# Altium footprint library OBDII-components.PcbLib: 27 footprints (part 1 of 2)
Each footprint in its own frame and in the unit in brackets; x right, y up, seen from the top. Pads: shape width x height; smd on the part's side, far side on the other; paste and mask are expansions set on the pad; w line width, h text height; cw(c..) or ccw(c..) is an arc to the next point about the centre after c.
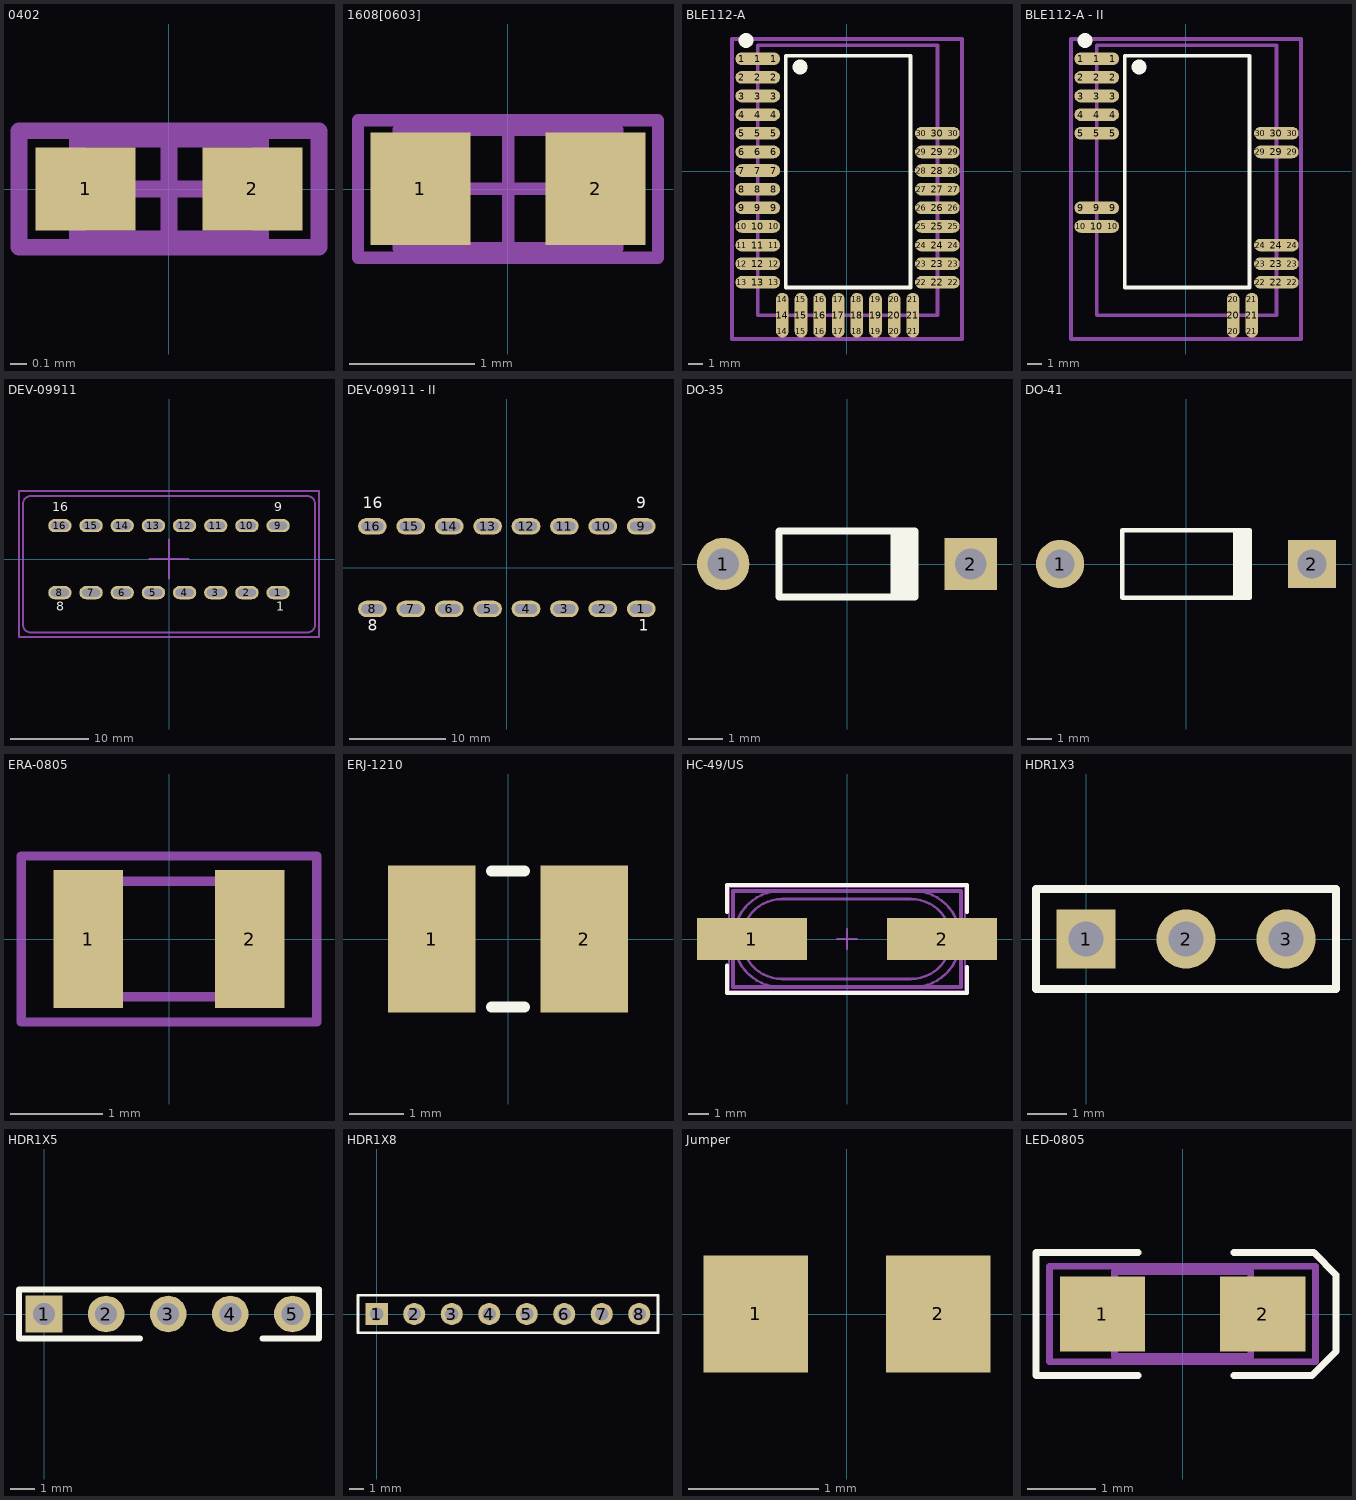
[diagram p0: the footprints below, top view; thin cyan lines are the x and y axes]

## 0402 [mm] "Chip Capacitor, Body 1.0x0.5mm, IPC High Density"
height 1.3
pads (2):
  rect 0.6x0.5 smd: 1(-0.5,0) 2(0.5,0)
Mechanical 13:
  lines w0.1: -0.55,-0.3 -0.55,0.3 0.55,0.3 0.55,-0.3 -0.55,-0.3
Mechanical 15:
  lines w0.1: -0.3,0 0.3,0 ; 0,-0.3 0,0.3 ; -0.9,-0.35 -0.9,0.35 0.9,0.35 0.9,-0.35 -0.9,-0.35
3D body: height 1.3, standoff 0, extent -0.55,-0.3 0.55,0.3

## 1608[0603] [mm] "Chip Capacitor, Body 1.6x0.8mm, IPC High Density"
height 1.3
pads (2):
  rect 0.8x0.9 smd: 1(-0.7,0) 2(0.7,0)
Mechanical 13:
  lines w0.1: -0.875,-0.475 -0.875,0.475 0.875,0.475 0.875,-0.475 -0.875,-0.475
Mechanical 15:
  lines w0.1: -0.475,0 0.475,0 ; 0,-0.475 0,0.475 ; -1.2,-0.55 -1.2,0.55 1.2,0.55 1.2,-0.55 -1.2,-0.55
3D body: height 1.3, standoff 0, extent -0.875,-0.475 0.875,0.475

## BLE112-A [mm] "BLE112 Bluetooth Smart Module"
pads (90):
  round 0.85 smd: 1(-7.05,7.55) 1(-4.9,7.55) 2(-7.05,6.3) 2(-4.9,6.3) 3(-7.05,5.05) 3(-4.9,5.05) 4(-7.05,3.8) 4(-4.9,3.8) 5(-7.05,2.55) 5(-4.9,2.55) 6(-7.05,1.3) 6(-4.9,1.3) 7(-7.05,0.05) 7(-4.9,0.05) 8(-7.05,-1.2) 8(-4.9,-1.2) 9(-7.05,-2.45) 9(-4.9,-2.45) 10(-7.05,-3.7) 10(-4.9,-3.7) 11(-7.05,-4.95) 11(-4.9,-4.95) 12(-7.05,-6.2) 12(-4.9,-6.2) 13(-7.05,-7.45) 13(-4.9,-7.45) 14(-4.325,-10.725) 14(-4.325,-8.575) 15(-3.075,-10.725) 15(-3.075,-8.575) 16(-1.825,-10.725) 16(-1.825,-8.575) 17(-0.575,-10.725) 17(-0.575,-8.575) 18(0.675,-10.725) 18(0.675,-8.575) 19(1.925,-10.725) 19(1.925,-8.575) 20(3.175,-10.725) 20(3.175,-8.575) 21(4.425,-10.725) 21(4.425,-8.575) 22(5,-7.45) 22(7.15,-7.45) 23(5,-6.2) 23(7.15,-6.2) 24(5,-4.95) 24(7.15,-4.95) 25(5,-3.7) 25(7.15,-3.7) 26(5,-2.45) 26(7.15,-2.45) 27(5,-1.2) 27(7.15,-1.2) 28(5,0.05) 28(7.15,0.05) 29(5,1.3) 29(7.15,1.3) 30(5,2.55) 30(7.15,2.55)
  rect 2.15x0.85 smd: 1(-5.975,7.55) 2(-5.975,6.3) 3(-5.975,5.05) 4(-5.975,3.8) 5(-5.975,2.55) 6(-5.975,1.3) 7(-5.975,0.05) 8(-5.975,-1.2) 9(-5.975,-2.45) 10(-5.975,-3.7) 11(-5.975,-4.95) 12(-5.975,-6.2) 13(-5.975,-7.45) 22(6.075,-7.45) 23(6.075,-6.2) 24(6.075,-4.95) 25(6.075,-3.7) 26(6.075,-2.45) 27(6.075,-1.2) 28(6.075,0.05) 29(6.075,1.3) 30(6.075,2.55)
  rect 0.85x2.15 smd: 14(-4.325,-9.65) 15(-3.075,-9.65) 16(-1.825,-9.65) 17(-0.575,-9.65) 18(0.675,-9.65) 19(1.925,-9.65) 20(3.175,-9.65) 21(4.425,-9.65)
Top Overlay:
  circle w1: c-3.13,7 r0.005
  circle w1: c-6.755,8.775 r0.005
  lines w0.254: -4.1,-7.8 -4.1,7.75 4.25,7.75 4.275,7.725 4.275,-7.8 -4.1,-7.8
Mechanical 1:
  text ".Designator" at 0.113,-2.438 h0.64
Mechanical 13:
  lines w0.254: -5.975,-9.65 4.425,-9.65 6.075,-9.65 6.075,2.55 6.075,8.45 -5.975,8.45 -5.975,-7.45 -5.975,-9.65
Mechanical 15:
  lines w0.254: -7.7,-11.25 7.725,-11.25 7.725,8.875 -7.7,8.875 -7.7,-11.225
3D body: height 2.3, standoff 0.1, extent -5.975,-9.65 6.075,8.45

## BLE112-A - II [mm] "BLE112 Bluetooth Smart Module"
height 2.3
pads (42):
  round 0.85 smd: 1(-7.05,7.55) 1(-4.9,7.55) 2(-7.05,6.3) 2(-4.9,6.3) 3(-7.05,5.05) 3(-4.9,5.05) 4(-7.05,3.8) 4(-4.9,3.8) 5(-7.05,2.55) 5(-4.9,2.55) 9(-7.05,-2.45) 9(-4.9,-2.45) 10(-7.05,-3.7) 10(-4.9,-3.7) 20(3.175,-10.725) 20(3.175,-8.575) 21(4.425,-10.725) 21(4.425,-8.575) 22(5,-7.45) 22(7.15,-7.45) 23(5,-6.2) 23(7.15,-6.2) 24(5,-4.95) 24(7.15,-4.95) 29(5,1.3) 29(7.15,1.3) 30(5,2.55) 30(7.15,2.55)
  rect 2.15x0.85 smd: 1(-5.975,7.55) 2(-5.975,6.3) 3(-5.975,5.05) 4(-5.975,3.8) 5(-5.975,2.55) 9(-5.975,-2.45) 10(-5.975,-3.7) 22(6.075,-7.45) 23(6.075,-6.2) 24(6.075,-4.95) 29(6.075,1.3) 30(6.075,2.55)
  rect 0.85x2.15 smd: 20(3.175,-9.65) 21(4.425,-9.65)
Top Overlay:
  circle w1: c-6.755,8.775 r0.005
  circle w1: c-3.13,7 r0.005
  lines w0.254: -4.1,-7.8 4.275,-7.8 4.275,7.725 4.25,7.75 -4.1,7.75 -4.1,-7.8
Mechanical 1:
  text ".Designator" at 0.113,-2.438 h0.64
Mechanical 13:
  lines w0.254: -5.975,-9.65 -5.975,-7.45 -5.975,8.45 6.075,8.45 6.075,2.55 6.075,-9.65 4.425,-9.65 -5.975,-9.65
Mechanical 15:
  lines w0.254: -7.7,-11.25 7.725,-11.25 7.725,8.875 -7.7,8.875 -7.7,-11.225
3D body: height 2.3, standoff 0.1, extent -5.975,-9.65 6.075,8.45

## DEV-09911 [mm] "OBD-II Connector"
height 20
pads (16):
  oval 3x1.7 hole 1 slot 2.3 at 0 deg: 1(14,-4.3) 2(10,-4.3) 3(6,-4.3) 4(2,-4.3) 5(-2,-4.3) 6(-6,-4.3) 7(-10,-4.3) 8(-14,-4.3) 9(14,4.3) 10(10,4.3) 11(6,4.3) 12(2,4.3) 13(-2,4.3) 14(-6,4.3) 15(-10,4.3) 16(-14,4.3)
Top Overlay:
  text "1" at 13.75,-7 h2
  text "8" at -14.5,-7 h2
  text "16" at -15,5.75 h2
  text "9" at 13.5,5.75 h2
Mechanical 1:
  text ".Designator" at -2.25,-0.75 h3
Mechanical 13:
  lines w0.127: -14.85,-4.7 -14.85,-3.9 -13.15,-3.9 -13.15,-4.7 -14.85,-4.7 ; -14.85,3.9 -14.85,4.7 -13.15,4.7 -13.15,3.9 -14.85,3.9 ; -10.85,-4.7 -10.85,-3.9 -9.15,-3.9 -9.15,-4.7 -10.85,-4.7 ; -10.85,3.9 -10.85,4.7 -9.15,4.7 -9.15,3.9 -10.85,3.9 ; -6.85,-4.7 -6.85,-3.9 -5.15,-3.9 -5.15,-4.7 -6.85,-4.7 ; -6.85,3.9 -6.85,4.7 -5.15,4.7 -5.15,3.9 -6.85,3.9 ; -2.85,-4.7 -2.85,-3.9 -1.15,-3.9 -1.15,-4.7 -2.85,-4.7 ; -2.85,3.9 -2.85,4.7 -1.15,4.7 -1.15,3.9 -2.85,3.9 ; 1.15,-4.7 1.15,-3.9 2.85,-3.9 2.85,-4.7 1.15,-4.7 ; 1.15,3.9 1.15,4.7 2.85,4.7 2.85,3.9 1.15,3.9 ; 5.15,-4.7 5.15,-3.9 6.85,-3.9 6.85,-4.7 5.15,-4.7 ; 5.15,3.9 5.15,4.7 6.85,4.7 6.85,3.9 5.15,3.9 ; 9.15,-4.7 9.15,-3.9 10.85,-3.9 10.85,-4.7 9.15,-4.7 ; 9.15,3.9 9.15,4.7 10.85,4.7 10.85,3.9 9.15,3.9 ; 13.15,-4.7 14.85,-4.7 14.85,-3.9 13.15,-3.9 13.15,-4.7 ; 13.15,3.9 13.15,4.7 14.85,4.7 14.85,3.9 13.15,3.9
  lines w0.254: -18.75,-8.415 ccw(c-17.75,-8.415) -17.75,-9.415 17.75,-9.415 ccw(c17.75,-8.415) 18.75,-8.415 18.75,7.085 ccw(c17.75,7.085) 17.75,8.085 -17.75,8.085 ccw(c-17.75,7.085) -18.75,7.085 -18.75,-8.415
Mechanical 15:
  lines w0.254: -2.5,0 2.5,0 ; 0,-2.5 0,2.5 ; -19.25,-10 -19.25,8.75 19.25,8.75 19.25,-10 -19.25,-10
3D body: height -1.6, standoff -21.6, extent -18.759,-9.424 18.759,8.094
3D body: height 4.1, standoff -2, extent 13.15,-4.7 14.85,-3.9
3D body: height 4.1, standoff -2, extent 13.15,3.9 14.85,4.7
3D body: height 4.1, standoff -2, extent 9.15,-4.7 10.85,-3.9
3D body: height 4.1, standoff -2, extent 9.15,3.9 10.85,4.7
3D body: height 4.1, standoff -2, extent 5.15,3.9 6.85,4.7
3D body: height 4.1, standoff -2, extent 5.15,-4.7 6.85,-3.9
3D body: height 3, standoff -2, extent 1.15,-4.7 2.85,-3.9
3D body: height 4.1, standoff -2, extent 1.15,3.9 2.85,4.7
3D body: height 4.1, standoff -2, extent -2.85,3.9 -1.15,4.7
3D body: height 3, standoff -2, extent -2.85,-4.7 -1.15,-3.9
3D body: height 4.1, standoff -2, extent -6.85,-4.7 -5.15,-3.9
3D body: height 4.1, standoff -2, extent -6.85,3.9 -5.15,4.7
3D body: height 4.1, standoff -2, extent -10.85,3.9 -9.15,4.7
3D body: height 4.1, standoff -2, extent -10.85,-4.7 -9.15,-3.9
3D body: height 4.1, standoff -2, extent -14.85,-4.7 -13.15,-3.9
3D body: height 4.1, standoff -2, extent -14.85,3.9 -13.15,4.7

## DEV-09911 - II [mm] "OBD-II Connector"
height 20
pads (16):
  oval 3x1.7 hole 1 slot 2.3 at 0 deg: 1(14,-4.3) 2(10,-4.3) 3(6,-4.3) 4(2,-4.3) 5(-2,-4.3) 6(-6,-4.3) 7(-10,-4.3) 8(-14,-4.3) 9(14,4.3) 10(10,4.3) 11(6,4.3) 12(2,4.3) 13(-2,4.3) 14(-6,4.3) 15(-10,4.3) 16(-14,4.3)
Top Overlay:
  text "9" at 13.5,5.75 h2
  text "16" at -15,5.75 h2
  text "8" at -14.5,-7 h2
  text "1" at 13.75,-7 h2
Mechanical 1:
  text ".Designator" at -2.25,-0.75 h3
Mechanical 13:
  lines w0.127: -14.85,-4.7 -13.15,-4.7 -13.15,-3.9 -14.85,-3.9 -14.85,-4.7 ; -14.85,3.9 -13.15,3.9 -13.15,4.7 -14.85,4.7 -14.85,3.9 ; -10.85,-4.7 -9.15,-4.7 -9.15,-3.9 -10.85,-3.9 -10.85,-4.7 ; -10.85,3.9 -9.15,3.9 -9.15,4.7 -10.85,4.7 -10.85,3.9 ; -6.85,-4.7 -5.15,-4.7 -5.15,-3.9 -6.85,-3.9 -6.85,-4.7 ; -6.85,3.9 -5.15,3.9 -5.15,4.7 -6.85,4.7 -6.85,3.9 ; -2.85,-4.7 -1.15,-4.7 -1.15,-3.9 -2.85,-3.9 -2.85,-4.7 ; -2.85,3.9 -1.15,3.9 -1.15,4.7 -2.85,4.7 -2.85,3.9 ; 1.15,-4.7 2.85,-4.7 2.85,-3.9 1.15,-3.9 1.15,-4.7 ; 1.15,3.9 2.85,3.9 2.85,4.7 1.15,4.7 1.15,3.9 ; 5.15,-4.7 6.85,-4.7 6.85,-3.9 5.15,-3.9 5.15,-4.7 ; 5.15,3.9 6.85,3.9 6.85,4.7 5.15,4.7 5.15,3.9 ; 9.15,-4.7 10.85,-4.7 10.85,-3.9 9.15,-3.9 9.15,-4.7 ; 9.15,3.9 10.85,3.9 10.85,4.7 9.15,4.7 9.15,3.9 ; 13.15,-4.7 13.15,-3.9 14.85,-3.9 14.85,-4.7 13.15,-4.7 ; 13.15,3.9 14.85,3.9 14.85,4.7 13.15,4.7 13.15,3.9
3D body: height 4.1, standoff -2, extent -14.85,3.9 -13.15,4.7
3D body: height 4.1, standoff -2, extent -14.85,-4.7 -13.15,-3.9
3D body: height 4.1, standoff -2, extent -10.85,-4.7 -9.15,-3.9
3D body: height 4.1, standoff -2, extent -10.85,3.9 -9.15,4.7
3D body: height 4.1, standoff -2, extent -6.85,3.9 -5.15,4.7
3D body: height 4.1, standoff -2, extent -6.85,-4.7 -5.15,-3.9
3D body: height 3, standoff -2, extent -2.85,-4.7 -1.15,-3.9
3D body: height 4.1, standoff -2, extent -2.85,3.9 -1.15,4.7
3D body: height 4.1, standoff -2, extent 1.15,3.9 2.85,4.7
3D body: height 3, standoff -2, extent 1.15,-4.7 2.85,-3.9
3D body: height 4.1, standoff -2, extent 5.15,-4.7 6.85,-3.9
3D body: height 4.1, standoff -2, extent 5.15,3.9 6.85,4.7
3D body: height 4.1, standoff -2, extent 9.15,3.9 10.85,4.7
3D body: height 4.1, standoff -2, extent 9.15,-4.7 10.85,-3.9
3D body: height 4.1, standoff -2, extent 13.15,3.9 14.85,4.7
3D body: height 4.1, standoff -2, extent 13.15,-4.7 14.85,-3.9

## DO-35 [mm] "Diode, Axial; Body 3.8 x 1.9 mm (LxDia. max), Lead Dia. 0.53 mm (max)"
height 1.9
pads (2):
  round 1.5 hole 0.9: 1(-3.55,0)
  rect 1.5x1.5 hole 0.9: 2(3.55,0)
Top Overlay:
  rectangle: 1.25,-0.95 2.05,0.95
  lines w0.2: 1.95,-0.95 -1.95,-0.95 -1.95,0.95 1.95,0.95

## DO-41 [mm] "Diode, Axial; Body 5.2 x 2.7 mm (LxDia. max), Lead Dia. 0.86 mm (max)"
height 2.8
pads (2):
  round 2 hole 1.2: 1(-5.23,0)
  rect 2x2 hole 1.2: 2(5.23,0)
Top Overlay:
  rectangle: 1.95,-1.4 2.75,1.4
  lines w0.2: 2.65,-1.4 -2.65,-1.4 -2.65,1.4 2.65,1.4

## ERA-0805 [mm] "Chip Resistor; Body 2 x 1.25 mm"
height 0.5
pads (2):
  rect 0.75x1.5 smd: 1(-0.875,0) 2(0.875,0)
Mechanical 13:
  lines w0.1: -1,-0.625 -1,0.625 1,0.625 1,-0.625 -1,-0.625
Mechanical 15:
  lines w0.1: -1.6,-0.9 -1.6,0.9 1.6,0.9 1.6,-0.9 -1.6,-0.9
3D body: height 0.5, standoff 0.01, extent -1,-0.625 1,0.625

## ERJ-1210 [mm] "Chip Resistor; Body 3.2 x 2.5 mm (LxW typ)"
height 0.7
pads (2):
  rect 1.6x2.7 smd: 1(-1.4,0) 2(1.4,0)
Top Overlay:
  lines w0.2: -0.3,-1.25 0.3,-1.25 ; -0.3,1.25 0.3,1.25

## HC-49/US [mm]
pads (2):
  rect 5.5x2.1 smd: 1(-4.75,0) 2(4.75,0)
Top Overlay:
  lines w0.2: -6,-1.325 -6,-2.7 6,-2.7 6,-1.4 ; -6,1.35 -6,2.7 6,2.7 6,1.35
Mechanical 1:
  text ".Designator" at 0,0 h1.27
Mechanical 13:
  lines w0.127: -3.25,-2.425 cw(c-3.25,0) -3.25,2.425 ; 3.25,-2.425 ccw(c3.25,0) 3.25,2.425 ; -3.25,-2 cw(c-3.25,0) -3.25,2 3.2,2 cw(c3.2,0) 3.2,-2 -3.25,-2
  lines w0.2: -5.7,-2.4 -5.7,2.4 5.7,2.4 5.7,-2.4 -5.7,-2.4
Mechanical 15:
  lines w0.1: -0.5,0 0.5,0 ; 0,-0.5 0,0.5 ; -5.9,-2.6 5.9,-2.6 5.9,2.6 -5.9,2.6 -5.9,-2.6
3D body: height 4.3, standoff 0.1, extent -5.207,-2 5.207,2
3D body: height 1.02, standoff 0, extent -5.7,-2.4 5.7,2.4

## HDR1X3 [mm] "Connector; Header; 3 Position"
pads (3):
  rect 1.5x1.5 hole 0.9: 1(0,0)
  round 1.5 hole 0.9: 2(2.54,0) 3(5.08,0)
Top Overlay:
  lines w0.2: -1.27,-1.27 -1.27,1.27 6.35,1.27 6.35,-1.27 -1.27,-1.27

## HDR1X5 [mm] "Connector; Header; 5 Position"
pads (5):
  rect 1.5x1.5 hole 0.9: 1(0,0)
  round 1.5 hole 0.9: 2(2.54,0) 3(5.08,0) 4(7.62,0) 5(10.16,0)
Top Overlay:
  lines w0.254: 3.925,-1 -1.025,-1 -1.025,1 11.25,1 11.25,-1 8.95,-1

## HDR1X8 [mm] "Connector; Header; 8 Position"
pads (8):
  rect 1.5x1.5 hole 0.9: 1(0,0)
  round 1.5 hole 0.9: 2(2.54,0) 3(5.08,0) 4(7.62,0) 5(10.16,0) 6(12.7,0) 7(15.24,0) 8(17.78,0)
Top Overlay:
  lines w0.2: -1.27,-1.27 19.05,-1.27 19.05,1.27 -1.27,1.27 -1.27,-1.27

## Jumper [mm] "Solder Jumper"
pads (2):
  rect 0.8x0.9 smd: 1(-0.7,0) 2(0.7,0)
Top Solder:
  rectangle: -0.3,-0.55 0.325,0.55

## LED-0805 [mm] "LED, Body 2 x 1.25 mm"
height 0.75
pads (2):
  rect 1.25x1.1 smd: 1(-1.175,0) 2(1.175,0)
Top Overlay:
  lines w0.1: -0.65,-0.9 -2.15,-0.9 -2.15,0.9 -0.65,0.9 ; 0.75,-0.9 1.9,-0.9 ; 0.75,0.9 1.925,0.9 ; 2.225,-0.575 1.9,-0.9 ; 1.9,-0.9 2.25,-0.55 2.25,0.575 ; 1.925,0.9 2.25,0.575 ; 1.925,0.9 2.25,0.575
Mechanical 13:
  lines w0.1: -1,-0.625 -1,0.625 1,0.625 1,-0.625 -1,-0.625
Mechanical 15:
  lines w0.1: -1.95,-0.7 1.95,-0.7 1.95,0.7 -1.95,0.7 -1.95,-0.7
3D body: height 0.75, standoff 0.01, extent -1,-0.625 1,0.625